# Altium schematic symbol library _STARTUP.SchLib: 1 symbol
Pins are listed as number, name and electrical type; pins without a type are passive.

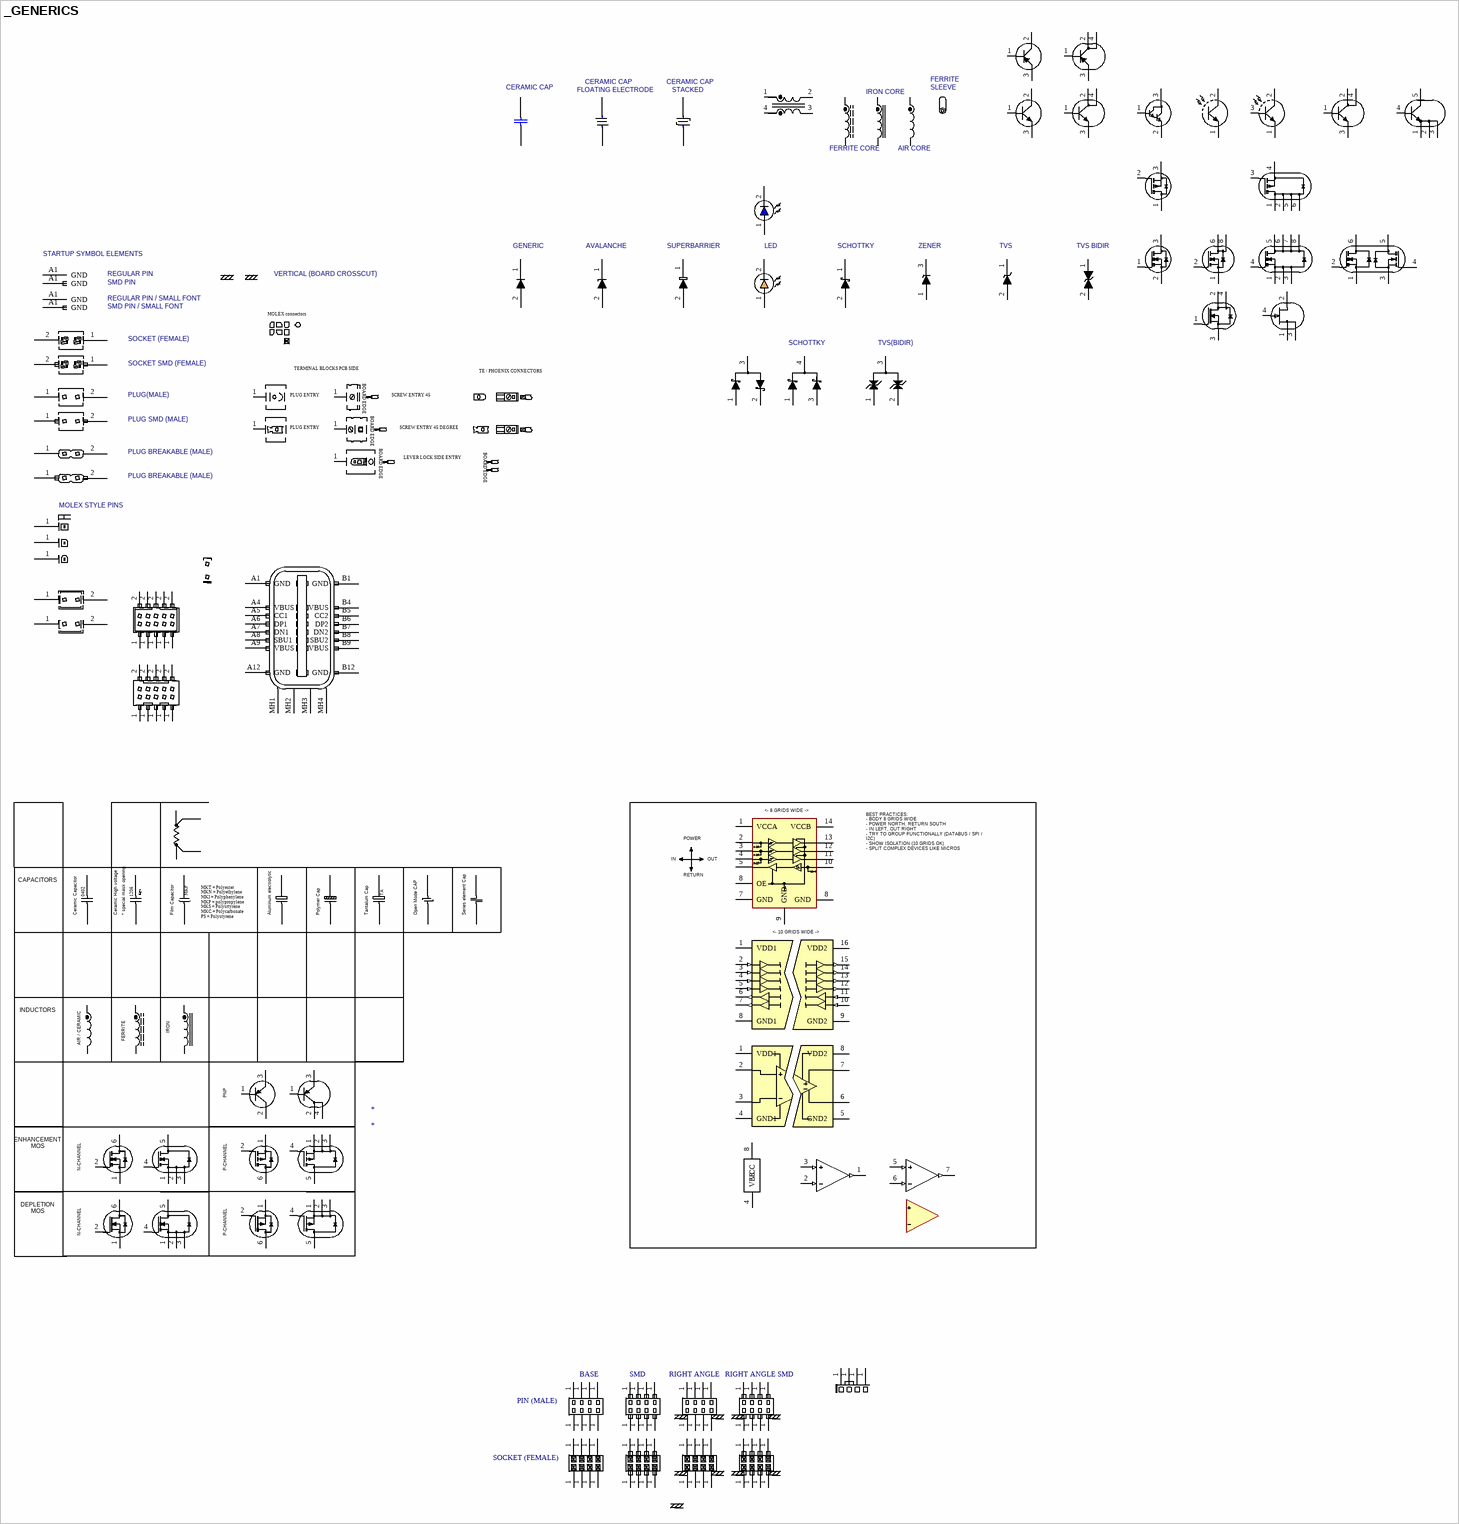
[diagram p0: symbol _GENERICS]

## _GENERICS
designator *
pins: 1 VCCA (power), 1, 1, 1, 1, 1, 1, 1, 1, 1, 1, 1, 1, 1, 1, 1, 1, 1, 1, 1, 1, 1, 1, 1, 1, 1, 1, 1, 1, 1, 1, 1, 1, 1, 1, 1, 1, 1, 1, 1, 1, 1, 1, 1, 1, 1, 1, 1, 1, 1, 1, 1, 1, 1, 1, 1, 1, 1, 1, 1, 1, 1, 1, 1, 1, 1, 1, 1, 1, 1, 1, 1 S, 1 S, 1 B, 1 B, 1 S, 1 S, 1 S, 1 S, 1 S, 1 S, 1, 1, 1, 1, 1, 1, 1, 1, 1 VDD1 (power) "Anode", 1 VDD1 (power) "Anode", 1 (out), 1, 1, 1, 1, 1, 1, 1, 1, 1, 1, 1, 1 A, 1 A, 1 A, 1 K, 1 K, 1 K, 1 A, 1 K, 1 K, 1 K, 1 K, 1 A, 1, 1, 1, 1, 1, 1, 1, 1 B, 1 B, 1 B, 1, 1, 1 D, 1 D, 1 B, 1 B, 1 S, 1 S, 1 G1, 1 G1, 1 S1, 1 S, 1, 1, 1, 1, 1, 1, 1, 1, 1, 1, 1, 1, 1, 1, 1, 1, 1, 1 B, 1 E, 2 A1, 2, 2, 2 S, 2 S, 2 C, 2 C, 2 S, 2 S, 2 S, 2 S, 2 S, 2 S, 2, 2, 2, 2, 2, 2, 2, 2, 2 K (in) "Cathode", 2 K "Cathode", 2 - (in), 2, 2, 2, 2 K, 2 K, 2 A, 2 A, 2 A, 2 A, 2 A, 2 A, 2 A, 2 K, 2, 2, 2, 2, 2, 2, 2, 2 C, 2 C, 2 E, 2, 2, 2 D, 2 G, 2 C, 2 C, 2 G1, 2 S, 2 S, 2 D, 2 G1, 2 D, 2, 2, 2, 2, 2, 2, 2, 2, 2, 2, 2, 2, 2, 2, 2, 2, 2, 2 C, 2 E, 3 A2, 3 S, 3 E, 3 E, 3 S, 3 S, 3 S, 3, 3 K (in) "Cathode", 3 GND1 "Cathode", 3 + (in), 3 AK, 3 A, 3 AK, 3 K, 3, 3 E, 3 E, 3 C, 3, 3 G1, 3 S, 3 E, 3 E, 3 S, 3 D, 3 S, 3 S2, 3 S, 3 E, 3 E, 4 A3, 4 G1, 4 C, 4 G1, 4 G1, 4 G1, 4, 4 K (in) "Cathode", 4 GND1 (power) "Cathode", 4 VEE (power), 4 K, 4, 4 E, 4 S, 4 C, 4 G1, 4 D, 4 G2, 4 G, 4 E, 4 B, 5 A4Y, 5 D, 5 D, 5 D, 5 D, 5 K (in) "Cathode", 5 GND2 (power) "Emitter", 5 (in), 5 D, 5 D, 5 D2, 5 C, 6 D, 6 D, 6 D, 6 D, 6 K (out) "Cathode", 6 NC "Emitter", 6 (in), 6 D, 6 D, 6 D, 6 D1, 7 GND, 7 K (out) "Cathode", 7 Vo "Collector", 7 (out), 7 D, 8 OE, 8 GND, 8 GND1 (power) "Cathode", 8 VDD2 (power) "Collector", 8 VCC (power), 8 D, 8 D, 9 GND, 9 GND2 (power) "Cathode", 10 B4, 10 K (in) "Cathode", 11 B3Y, 11 K (in) "Cathode", 12 B2Y, 12 K (out) "Cathode", 13 B1Y, 13 K (out) "Cathode", 14 VCCB, 14 K (out) "Cathode", 15 K (out) "Cathode", 16 VDD2 (power) "Cathode", A1 GND, A1 GND, A1 GND, A1 GND, A1 GND, A4 VBUS, A5 CC1, A6 DP1, A7 DN1, A8 SBU1, A9 VBUS, A12 GND, B1 GND, B4 VBUS, B5 CC2, B6 DP2, B7 DN2, B8 SBU2, B9 VBUS, B12 GND, MH1 MH, MH2 MH, MH3 MH, MH4 MH
text: FERRITE; CERAMIC CAP; SLEEVE; FLOATING ELECTRODE; STACKED; IRON CORE; FERRITE CORE; AIR CORE; GENERIC; AVALANCHE; SUPERBARRIER; LED; SCHOTTKY; ZENER; TVS; TVS BIDIR; STARTUP SYMBOL ELEMENTS; REGULAR PIN; VERTICAL (BOARD CROSSCUT); SMD PIN; REGULAR PIN / SMALL FONT; SMD PIN / SMALL FONT; MOLEX connectors; SOCKET (FEMALE); TVS(BIDIR); SOCKET SMD (FEMALE); TERMINAL BLOCKS PCB SIDE; TE / PHOENIX CONNECTORS; BOARD EDGE; PLUG(MALE); PLUG ENTRY; SCREW ENTRY 45; PLUG SMD (MALE); SCREW ENTRY 45 DEGREE; PLUG BREAKABLE (MALE); LEVER LOCK SIDE ENTRY; MOLEX STYLE PINS; <- 8 GRIDS WIDE ->; POWER; BEST PRACTICES: / - BODY 8 GRIDS WIDE / - POWER NORTH, RETURN SOUTH / - IN LEFT, OUT RIGHT / - TRY TO GROUP FUNCTIONALLY (DATABUS / SPI / I2C) / - SHOW ISOLATION (10 GRIDS OK) / - SPLIT COMPLEX DEVICES LIKE MICROS / - SPLIT DEVICE : POWER BLOCK GOES FIRST !; IN; OUT; RETURN; TA; 0402; 1206; MKP; CAPACITORS /; Ceramic Capacitor; Ceramic High voltage; * special mask opening; Film Capacitor; Aluminum electrolytic; Polymer Cap; Tantalum Cap; Open Mode CAP; Series element Cap; MKT = Polyester / MKN = Polyethylene / MKI = Polyphenylene / MKP = polypropylene / MKS = Polysrtyrene / MKC = Polycarbonate / PS = Polystyrene; <- 10 GRIDS WIDE ->; IRON; INDUCTORS; AIR / CERAMIC; PNP; N-CHANNEL; P-CHANNEL; ENHANCEMENT / MOS /; DEPLETION / MOS; BASE; SMD; RIGHT ANGLE; RIGHT ANGLE SMD; PIN (MALE)